# EAGLE library part COMPUTE_MODULE (library raspberrypi_cm)
Raspberry Pi Compute Module www.hasseb.fi
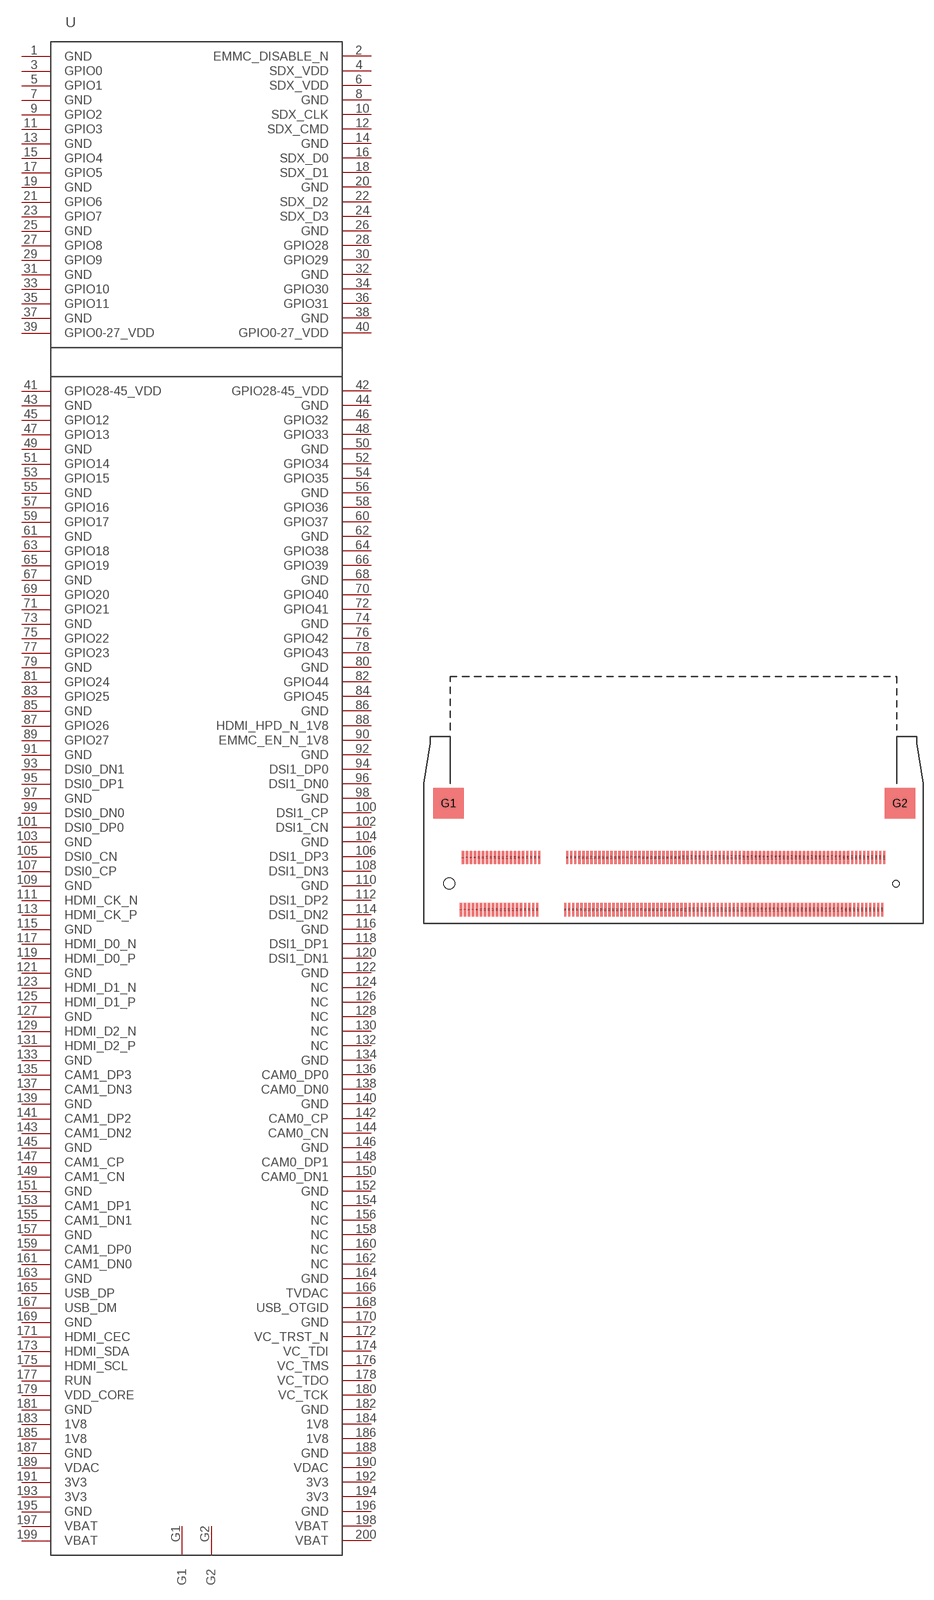
[diagram p0: symbol with the pads of SO-DIMM; footprint SO-DIMM]

Designator prefix U

## COMPUTE_MODULE  [SO-DIMM]
1  GND
2  EMMC_DISABLE_N
3  GPIO0
4  SDX_VDD
5  GPIO1
6  SDX_VDD
7  GND
8  GND
9  GPIO2
10  SDX_CLK
11  GPIO3
12  SDX_CMD
13  GND
14  GND
15  GPIO4
16  SDX_D0
17  GPIO5
18  SDX_D1
19  GND
20  GND
21  GPIO6
22  SDX_D2
23  GPIO7
24  SDX_D3
25  GND
26  GND
27  GPIO8
28  GPIO28
29  GPIO9
30  GPIO29
31  GND
32  GND
33  GPIO10
34  GPIO30
35  GPIO11
36  GPIO31
37  GND
38  GND
39  GPIO0-27_VDD
40  GPIO0-27_VDD
41  GPIO28-45_VDD
42  GPIO28-45_VDD
43  GND
44  GND
45  GPIO12
46  GPIO32
47  GPIO13
48  GPIO33
49  GND
50  GND
51  GPIO14
52  GPIO34
53  GPIO15
54  GPIO35
55  GND
56  GND
57  GPIO16
58  GPIO36
59  GPIO17
60  GPIO37
61  GND
62  GND
63  GPIO18
64  GPIO38
65  GPIO19
66  GPIO39
67  GND
68  GND
69  GPIO20
70  GPIO40
71  GPIO21
72  GPIO41
73  GND
74  GND
75  GPIO22
76  GPIO42
77  GPIO23
78  GPIO43
79  GND
80  GND
81  GPIO24
82  GPIO44
83  GPIO25
84  GPIO45
85  GND
86  GND
87  GPIO26
88  HDMI_HPD_N_1V8
89  GPIO27
90  EMMC_EN_N_1V8
91  GND
92  GND
93  DSI0_DN1
94  DSI1_DP0
95  DSI0_DP1
96  DSI1_DN0
97  GND
98  GND
99  DSI0_DN0
100  DSI1_CP
101  DSI0_DP0
102  DSI1_CN
103  GND
104  GND
105  DSI0_CN
106  DSI1_DP3
107  DSI0_CP
108  DSI1_DN3
109  GND
110  GND
111  HDMI_CK_N
112  DSI1_DP2
113  HDMI_CK_P
114  DSI1_DN2
115  GND
116  GND
117  HDMI_D0_N
118  DSI1_DP1
119  HDMI_D0_P
120  DSI1_DN1
121  GND
122  GND
123  HDMI_D1_N
124  NC
125  HDMI_D1_P
126  NC
127  GND
128  NC
129  HDMI_D2_N
130  NC
131  HDMI_D2_P
132  NC
133  GND
134  GND
135  CAM1_DP3
136  CAM0_DP0
137  CAM1_DN3
138  CAM0_DN0
139  GND
140  GND
141  CAM1_DP2
142  CAM0_CP
143  CAM1_DN2
144  CAM0_CN
145  GND
146  GND
147  CAM1_CP
148  CAM0_DP1
149  CAM1_CN
150  CAM0_DN1
151  GND
152  GND
153  CAM1_DP1
154  NC
155  CAM1_DN1
156  NC
157  GND
158  NC
159  CAM1_DP0
160  NC
161  CAM1_DN0
162  NC
163  GND
164  GND
165  USB_DP
166  TVDAC
167  USB_DM
168  USB_OTGID
169  GND
170  GND
171  HDMI_CEC
172  VC_TRST_N
173  HDMI_SDA
174  VC_TDI
175  HDMI_SCL
176  VC_TMS
177  RUN
178  VC_TDO
179  VDD_CORE
180  VC_TCK
181  GND
182  GND
183  1V8
184  1V8
185  1V8
186  1V8
187  GND
188  GND
189  VDAC
190  VDAC
191  3V3
192  3V3
193  3V3
194  3V3
195  GND
196  GND
197  VBAT
198  VBAT
199  VBAT
200  VBAT
G1  G1
G2  G2

## Footprint SO-DIMM (pad centres in mm)
AMP 390332-1 SO-DIMM Socket
smd 0.35 x 2: 1 -26.4,-3.9; 2 -26.1,3.9; 3 -25.8,-3.9; 4 -25.5,3.9; 5 -25.2,-3.9; 6 -24.9,3.9; 7 -24.6,-3.9; 8 -24.3,3.9; 9 -24,-3.9; 10 -23.7,3.9; 11 -23.4,-3.9; 12 -23.1,3.9; 13 -22.8,-3.9; 14 -22.5,3.9; 15 -22.2,-3.9; 16 -21.9,3.9; 17 -21.6,-3.9; 18 -21.3,3.9; 19 -21,-3.9; 20 -20.7,3.9; 21 -20.4,-3.9; 22 -20.1,3.9; 23 -19.8,-3.9; 24 -19.5,3.9; 25 -19.2,-3.9; 26 -18.9,3.9; 27 -18.6,-3.9; 28 -18.3,3.9; 29 -18,-3.9; 30 -17.7,3.9; 31 -17.4,-3.9; 32 -17.1,3.9; 33 -16.8,-3.9; 34 -16.5,3.9; 35 -16.2,-3.9; 36 -15.9,3.9; 37 -15.6,-3.9; 38 -15.3,3.9; 39 -15,-3.9; 40 -14.7,3.9; 41 -10.8,-3.9; 42 -10.5,3.9; 43 -10.2,-3.9; 44 -9.9,3.9; 45 -9.6,-3.9; 46 -9.3,3.9; 47 -9,-3.9; 48 -8.7,3.9; 49 -8.4,-3.9; 50 -8.1,3.9; 51 -7.8,-3.9; 52 -7.5,3.9; 53 -7.2,-3.9; 54 -6.9,3.9; 55 -6.6,-3.9; 56 -6.3,3.9; 57 -6,-3.9; 58 -5.7,3.9; 59 -5.4,-3.9; 60 -5.1,3.9; 61 -4.8,-3.9; 62 -4.5,3.9; 63 -4.2,-3.9; 64 -3.9,3.9; 65 -3.6,-3.9; 66 -3.3,3.9; 67 -3,-3.9; 68 -2.7,3.9; 69 -2.4,-3.9; 70 -2.1,3.9; 71 -1.8,-3.9; 72 -1.5,3.9; 73 -1.2,-3.9; 74 -0.9,3.9; 75 -0.6,-3.9; 76 -0.3,3.9; 77 0,-3.9; 78 0.3,3.9; 79 0.6,-3.9; 80 0.9,3.9; 81 1.2,-3.9; 82 1.5,3.9; 83 1.8,-3.9; 84 2.1,3.9; 85 2.4,-3.9; 86 2.7,3.9; 87 3,-3.9; 88 3.3,3.9; 89 3.6,-3.9; 90 3.9,3.9; 91 4.2,-3.9; 92 4.5,3.9; 93 4.8,-3.9; 94 5.1,3.9; 95 5.4,-3.9; 96 5.7,3.9; 97 6,-3.9; 98 6.3,3.9; 99 6.6,-3.9; 100 6.9,3.9; 101 7.2,-3.9; 102 7.5,3.9; 103 7.8,-3.9; 104 8.1,3.9; 105 8.4,-3.9; 106 8.7,3.9; 107 9,-3.9; 108 9.3,3.9; 109 9.6,-3.9; 110 9.9,3.9; 111 10.2,-3.9; 112 10.5,3.9; 113 10.8,-3.9; 114 11.1,3.9; 115 11.4,-3.9; 116 11.7,3.9; 117 12,-3.9; 118 12.3,3.9; 119 12.6,-3.9; 120 12.9,3.9; 121 13.2,-3.9; 122 13.5,3.9; 123 13.8,-3.9; 124 14.1,3.9; 125 14.4,-3.9; 126 14.7,3.9; 127 15,-3.9; 128 15.3,3.9; 129 15.6,-3.9; 130 15.9,3.9; 131 16.2,-3.9; 132 16.5,3.9; 133 16.8,-3.9; 134 17.1,3.9; 135 17.4,-3.9; 136 17.7,3.9; 137 18,-3.9; 138 18.3,3.9; 139 18.6,-3.9; 140 18.9,3.9; 141 19.2,-3.9; 142 19.5,3.9; 143 19.8,-3.9; 144 20.1,3.9; 145 20.4,-3.9; 146 20.7,3.9; 147 21,-3.9; 148 21.3,3.9; 149 21.6,-3.9; 150 21.9,3.9; 151 22.2,-3.9; 152 22.5,3.9; 153 22.8,-3.9; 154 23.1,3.9; 155 23.4,-3.9; 156 23.7,3.9; 157 24,-3.9; 158 24.3,3.9; 159 24.6,-3.9; 160 24.9,3.9; 161 25.2,-3.9; 162 25.5,3.9; 163 25.8,-3.9; 164 26.1,3.9; 165 26.4,-3.9; 166 26.7,3.9; 167 27,-3.9; 168 27.3,3.9; 169 27.6,-3.9; 170 27.9,3.9; 171 28.2,-3.9; 172 28.5,3.9; 173 28.8,-3.9; 174 29.1,3.9; 175 29.4,-3.9; 176 29.7,3.9; 177 30,-3.9; 178 30.3,3.9; 179 30.6,-3.9; 180 30.9,3.9; 181 31.2,-3.9; 182 31.5,3.9; 183 31.8,-3.9; 184 32.1,3.9; 185 32.4,-3.9; 186 32.7,3.9; 187 33,-3.9; 188 33.3,3.9; 189 33.6,-3.9; 190 33.9,3.9; 191 34.2,-3.9; 192 34.5,3.9; 193 34.8,-3.9; 194 35.1,3.9; 195 35.4,-3.9; 196 35.7,3.9; 197 36,-3.9; 198 36.3,3.9; 199 36.6,-3.9; 200 36.9,3.9
smd 4.6 x 4.6: G1 -28.254,12; G2 39.27,12
hole 1.6 at -28.15,0
hole 0.965 at 38.65,0